# Altium schematic symbol library NE555PE4.SchLib: 1 symbol
Pins are listed as number, name and electrical type; pins without a type are passive.

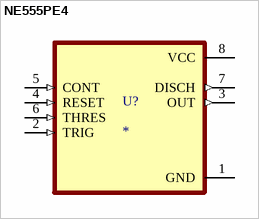
[diagram p0: symbol NE555PE4]

## NE555PE4
designator U?
MP: NE555PE4; Package: None; Availability: Unavailable; Value: *; Price: None
footprint DIP794W45P254L959H508Q8
pins: 1 GND (power), 2 TRIG (in), 3 OUT (out), 4 RESET (in), 5 CONT (in), 6 THRES (in), 7 DISCH (out), 8 VCC (power)